# Altium schematic symbol library 691 371 700 0xx B.SchLib: 6 symbols
Pins are listed as number, name and electrical type; pins without a type are passive.

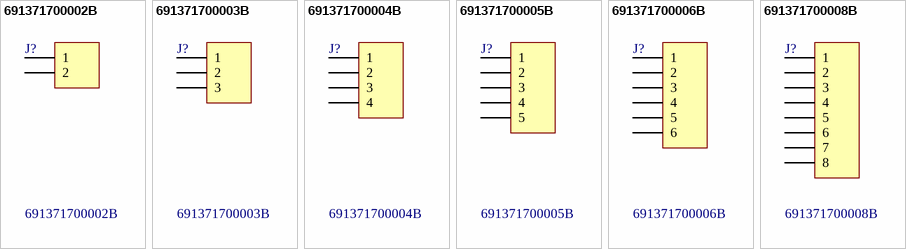
[diagram p0: symbols 691371700002B to 691371700008B]

## 691371700002B
designator J?
WR-TBL Terminal block - serie 371 B - 5.00mm; Manufacturer: Würth Elektronik eiSos GmbH; ComponentLink1 Description: Manufacturer; ComponentLink2 Description: Datasheet; NoPins: 02; Created Date: 8 January 2014; partNo: 691371700002B; ComponentLink1URL: http://www.we-online.com; ComponentLink2URL: http://katalog.we-online.de/em/datasheet/6913717000xxB.pdf; Created by: Karrer Zheng
footprint 691371700002B (5,00mm - PCB Vertical with strong retention force between male and female housing - grey - 02p)
pins: 1, 2

## 691371700003B
designator J?
WR-TBL Terminal block - serie 371 B - 5.00mm; Manufacturer: Würth Elektronik eiSos GmbH; ComponentLink1 Description: Manufacturer; ComponentLink2 Description: Datasheet; NoPins: 03; Created Date: 8 January 2014; partNo: 691371700003B; ComponentLink1URL: http://www.we-online.com; ComponentLink2URL: http://katalog.we-online.de/em/datasheet/6913717000xxB.pdf; Created by: Karrer Zheng
footprint 691371700003B (5,00mm - PCB Vertical with strong retention force between male and female housing - grey - 03p)
pins: 1, 2, 3

## 691371700004B
designator J?
WR-TBL Terminal block - serie 371 B - 5.00mm; Manufacturer: Würth Elektronik eiSos GmbH; ComponentLink1 Description: Manufacturer; ComponentLink2 Description: Datasheet; NoPins: 04; Created Date: 8 January 2014; partNo: 691371700004B; ComponentLink1URL: http://www.we-online.com; ComponentLink2URL: http://katalog.we-online.de/em/datasheet/6913717000xxB.pdf; Created by: Karrer Zheng
footprint 691371700004B (5,00mm - PCB Vertical with strong retention force between male and female housing - grey - 04p)
pins: 1, 2, 3, 4

## 691371700005B
designator J?
WR-TBL Terminal block - serie 371 B - 5.00mm; Manufacturer: Würth Elektronik eiSos GmbH; ComponentLink1 Description: Manufacturer; ComponentLink2 Description: Datasheet; NoPins: 05; Created Date: 8 January 2014; partNo: 691371700005B; ComponentLink1URL: http://www.we-online.com; ComponentLink2URL: http://katalog.we-online.de/em/datasheet/6913717000xxB.pdf; Created by: Karrer Zheng
footprint 691371700005B (5,00mm - PCB Vertical with strong retention force between male and female housing - grey - 05p)
pins: 1, 2, 3, 4, 5

## 691371700006B
designator J?
WR-TBL Terminal block - serie 371 B - 5.00mm; Manufacturer: Würth Elektronik eiSos GmbH; ComponentLink1 Description: Manufacturer; ComponentLink2 Description: Datasheet; NoPins: 06; Created Date: 8 January 2014; partNo: 691371700006B; ComponentLink1URL: http://www.we-online.com; ComponentLink2URL: http://katalog.we-online.de/em/datasheet/6913717000xxB.pdf; Created by: Karrer Zheng
footprint 691371700006B (5,00mm - PCB Vertical with strong retention force between male and female housing - grey - 06p)
pins: 1, 2, 3, 4, 5, 6

## 691371700008B
designator J?
WR-TBL Terminal block - serie 371 B - 5.00mm; Manufacturer: Würth Elektronik eiSos GmbH; ComponentLink1 Description: Manufacturer; ComponentLink2 Description: Datasheet; NoPins: 08; Created Date: 8 January 2014; partNo: 691371700008B; ComponentLink1URL: http://www.we-online.com; ComponentLink2URL: http://katalog.we-online.de/em/datasheet/6913717000xxB.pdf; Created by: Karrer Zheng
footprint 691371700008B (5,00mm - PCB Vertical with strong retention force between male and female housing - grey - 08p)
pins: 1, 2, 3, 4, 5, 6, 7, 8